# Altium schematic symbol library ARK2 x4.Schlib: 1 symbol
Pins are listed as number, name and electrical type; pins without a type are passive.

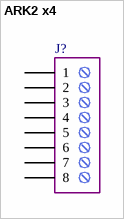
[diagram p0: symbol ARK2 x4]

## ARK2 x4
designator J?  (value not drawn)
pins: 1, 2, 3, 4, 5, 6, 7, 8